# Altium footprint library TCK-062.PcbLib: 1 footprints
Each footprint in its own frame and in the unit in brackets; x right, y up, seen from the top. Pads: shape width x height; smd on the part's side, far side on the other; paste and mask are expansions set on the pad; w line width, h text height; cw(c..) or ccw(c..) is an arc to the next point about the centre after c.
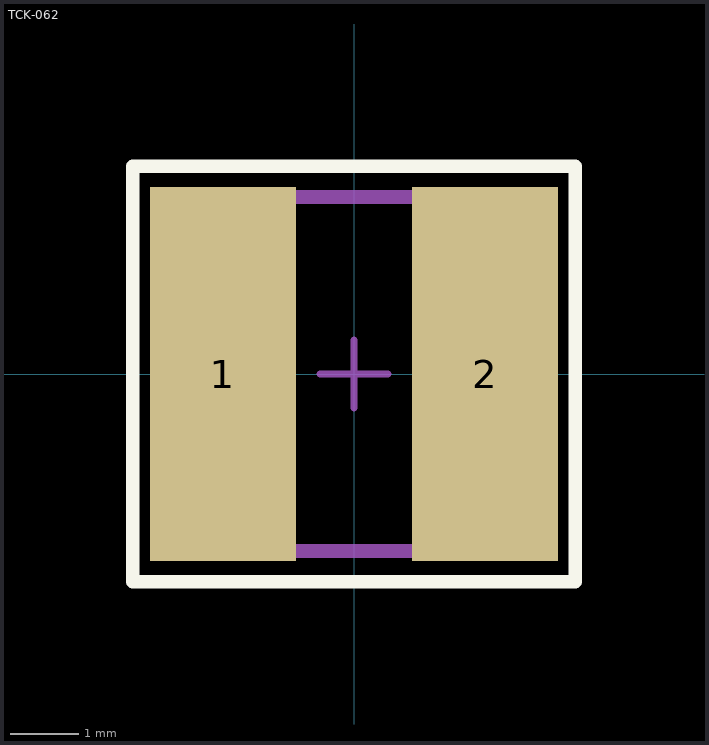
[diagram p0: the footprint, top view; thin cyan lines are the x and y axes]

## TCK-062 [mm] "power inductor"
height 5.2
pads (2):
  rect 2.15x5.5 smd: 1(-1.925,0) 2(1.925,0)
Top Overlay:
  lines w0.2: -3.25,-3.05 -3.25,3.05 3.25,3.05 3.25,-3.05 -3.25,-3.05
Mechanical 7:
  lines w0.2: -1.285,-2.6 cw(c0,0) -1.285,2.6 1.285,2.6 cw(c0,0) 1.285,-2.6 -1.285,-2.6
Mechanical 15:
  lines w0.1: -0.5,0 0.5,0 ; 0,-0.5 0,0.5
3D body "45376.stp": height 4.5, standoff 0, extent -2.899,-2.6 2.889,2.6